# Altium schematic symbol library BLM18KG331WH1D.SchLib: 1 symbol
Pins are listed as number, name and electrical type; pins without a type are passive.

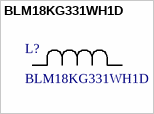
[diagram p0: symbol BLM18KG331WH1D]

## BLM18KG331WH1D
designator L?
Description; Manufacturer_Name: Murata; Copyright: Copyright (C) 2026 Ultra Librarian. All rights reserved.; Manufacturer_Part_Number: BLM18KG331WH1D
footprint IND_BLM18KG331WH1D_MUR
pins: 1, 2